# Altium footprint library ROBOCAM_1.PcbLib: 116 footprints (part 4 of 8)
Each footprint in its own frame and in the unit in brackets; x right, y up, seen from the top. Pads: shape width x height; smd on the part's side, far side on the other; paste and mask are expansions set on the pad; w line width, h text height; cw(c..) or ccw(c..) is an arc to the next point about the centre after c.
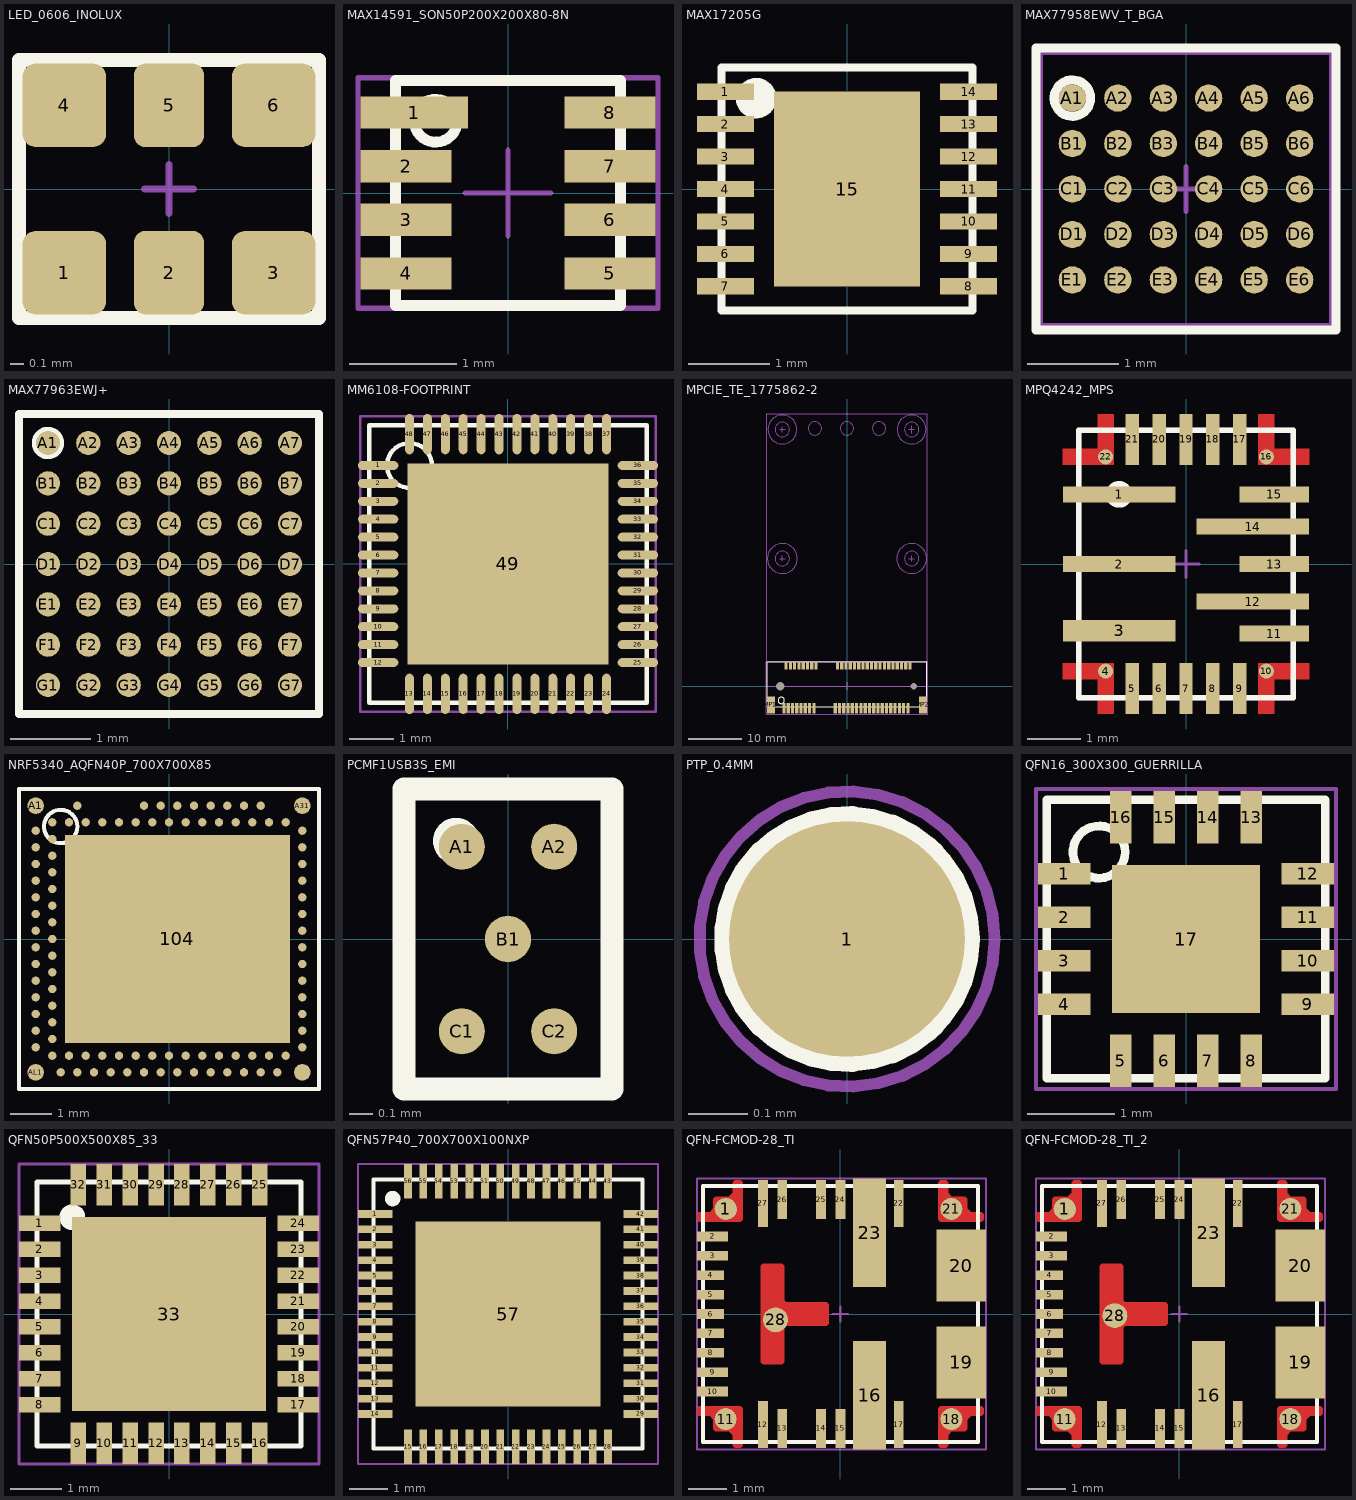
[diagram p3: the footprints below, top view; thin cyan lines are the x and y axes]

## LED_0606_INOLUX [mm] "1.6X1.6mm SMD LED"
height 0.4
pads (6):
  rrect32% 0.6x0.6 smd paste+0 mask+0.05: 1(-0.75,-0.6) 3(0.75,-0.6) 4(-0.75,0.6) 6(0.75,0.6)
  rrect32% 0.5x0.6 smd paste+0 mask+0.05: 2(0,-0.6) 5(0,0.6)
Top Overlay:
  circle w0.2: c-0.75,-0.6 r0.1
  lines w0.1: -1.075,-0.925 1.075,-0.925 1.075,0.925 -1.075,0.925 -1.075,-0.925
Top 3D Body:
  circle w0.2: c0.9,-0.5 r0.1
Top Courtyard:
  lines w0.05: -0.175,0 0.175,0 ; 0,-0.175 0,0.175 ; -1.075,-0.925 1.075,-0.925 1.075,0.925 -1.075,0.925 -1.075,-0.925
Top Designator:
  text ".Designator" at 7.618,0.508 h1.52
3D body "LED_RGB_IN-S66TFT5R5G5B.stp": height 0.4, standoff 0, extent -0.8,-0.8 0.8,0.8
3D body: height 0.41, standoff 0.31, extent -0.546,-0.1 -0.346,0.1
3D body: height 0.41, standoff 0.31, extent 0.346,-0.1 0.546,0.1
3D body: height 0.41, standoff 0.31, extent -0.1,-0.1 0.1,0.1

## MAX14591_SON50P200X200X80-8N [mm] "MAX14591 Logic-level translator, 0.8mm height"
height 0.8
pads (8):
  rect 1x0.3 smd paste+0 mask+0.05: 1(-0.875,0.75)
  rect 0.85x0.3 smd paste+0 mask+0.05: 2(-0.95,0.25) 3(-0.95,-0.25) 4(-0.95,-0.75) 5(0.95,-0.75) 6(0.95,-0.25) 7(0.95,0.25) 8(0.95,0.75)
Top Overlay:
  circle w0.1: c-0.675,0.675 r0.2
  lines w0.1: -1.05,-1.05 -1.05,1.05 1.05,1.05 1.05,-1.05 -1.05,-1.05
Top Courtyard:
  lines w0.05: -0.4,0 0.4,0 ; 0,-0.4 0,0.4 ; -1.4,-1.075 -1.4,1.075 1.4,1.075 1.4,-1.075 -1.4,-1.075
Top Designator:
  text ".Designator" at 7.618,0.508 h1.52
3D body "MAX14591ETA+T.stp": height 0.8, standoff 0, extent -1.05,-1 1.05,1
3D body: height 0.79, standoff 0.69, extent -0.9,0.6 -0.6,0.9

## MAX17205G [mm]
height 0.8
pads (15):
  rect 0.7x0.2 smd paste+0 mask+0.05: 1(-1.5,1.2) 2(-1.5,0.8) 3(-1.5,0.4) 4(-1.5,0) 5(-1.5,-0.4) 6(-1.5,-0.8) 7(-1.5,-1.2) 8(1.5,-1.2) 9(1.5,-0.8) 10(1.5,-0.4) 11(1.5,0) 12(1.5,0.4) 13(1.5,0.8) 14(1.5,1.2)
  rect 1.8x2.4 smd paste+0 mask+0.05: 15(0,0)
Top Overlay:
  circle w0.25: c-1.12,1.12 r0.125
  lines w0.1: -1.55,-1.5 -1.55,1.5 1.55,1.5 1.55,-1.5 -1.55,-1.5
Top Courtyard:
  lines w0.05: -1.55,-1.5 -1.55,1.5 1.55,1.5 1.55,-1.5 -1.55,-1.5
Top Designator:
  text ".Designator" at 7.618,0.508 h1.52
3D body "MAX17205G+.stp": height 0.8, standoff 0, extent -1.55,-1.5 1.55,1.5
3D body: height 0.79, standoff 0.69, extent -1.32,0.92 -0.92,1.32

## MAX77958EWV_T_BGA [mm] "6x5 WLP, 0.5mm pitch, 3.1mm x 2.65mm"
height 0.69
pads (30):
  round 0.3 smd mask+0.05: A1(-1.25,1) A2(-0.75,1) A3(-0.25,1) A4(0.25,1) A5(0.75,1) A6(1.25,1) B1(-1.25,0.5) B2(-0.75,0.5) B3(-0.25,0.5) B4(0.25,0.5) B5(0.75,0.5) B6(1.25,0.5) C1(-1.25,0) C2(-0.75,0) C3(-0.25,0) C4(0.25,0) C5(0.75,0) C6(1.25,0) D1(-1.25,-0.5) D2(-0.75,-0.5) D3(-0.25,-0.5) D4(0.25,-0.5) D5(0.75,-0.5) D6(1.25,-0.5) E1(-1.25,-1) E2(-0.75,-1) E3(-0.25,-1) E4(0.25,-1) E5(0.75,-1) E6(1.25,-1)
Top Overlay:
  circle w0.1: c-1.25,1 r0.2
  lines w0.1: -1.65,-1.55 -1.65,1.55 1.65,1.55 1.65,-1.55 -1.65,-1.55
Top Courtyard:
  lines w0.05: -0.25,0 0.25,0 ; 0,-0.25 0,0.25 ; -1.6,-1.5 -1.6,1.5 1.6,1.5 1.6,-1.5 -1.6,-1.5
Top Designator:
  text ".Designator" at -7.618,-0.508 h1.52
3D body: height 0.65, standoff 0.6, extent -1.5,0.85 -0.9,1.45
3D body "MAX77958CEWV+T.stp": height 0.69, standoff 0, extent -1.603,-1.502 1.603,1.502

## MAX77963EWJ+ [mm] "23VIN, 3.2 2S/3S -cell Li-Ion Battery Charger with PD."
height 0.69
pads (49):
  round 0.3 smd paste+0 mask+0.05: A1(-1.5,1.5) A2(-1,1.5) A3(-0.5,1.5) A4(0,1.5) A5(0.5,1.5) A6(1,1.5) A7(1.5,1.5) B1(-1.5,1) B2(-1,1) B3(-0.5,1) B4(0,1) B5(0.5,1) B6(1,1) B7(1.5,1) C1(-1.5,0.5) C2(-1,0.5) C3(-0.5,0.5) C4(0,0.5) C5(0.5,0.5) C6(1,0.5) C7(1.5,0.5) D1(-1.5,0) D2(-1,0) D3(-0.5,0) D4(0,0) D5(0.5,0) D6(1,0) D7(1.5,0) E1(-1.5,-0.5) E2(-1,-0.5) E3(-0.5,-0.5) E4(0,-0.5) E5(0.5,-0.5) E6(1,-0.5) E7(1.5,-0.5) F1(-1.5,-1) F2(-1,-1) F3(-0.5,-1) F4(0,-1) F5(0.5,-1) F6(1,-1) F7(1.5,-1) G1(-1.5,-1.5) G2(-1,-1.5) G3(-0.5,-1.5) G4(0,-1.5) G5(0.5,-1.5) G6(1,-1.5) G7(1.5,-1.5)
Top Overlay:
  circle w0.2: c-1.5,1.5 r0.1
  lines w0.1: -1.859,-1.859 1.859,-1.859 1.859,1.859 -1.859,1.859 -1.859,-1.859
Top Courtyard:
  lines w0.05: -1.859,-1.859 1.859,-1.859 1.859,1.859 -1.859,1.859 -1.859,-1.859
Top Designator:
  text ".Designator" at 7.618,0.508 h1.52
3D body: height 0.65, standoff 0.5, extent -1.7,1.075 -1.1,1.675
3D body "MAX77963EWJ+.stp": height 0.69, standoff 0, extent -1.859,-1.859 1.859,1.859

## MM6108-FOOTPRINT [mm] "QFN48, 6 x 6, Pitch 0.4 mm"
height 0.9
pads (49):
  oval 0.9x0.2 smd mask+0.05: 1(-2.9,2.2) 2(-2.9,1.8) 3(-2.9,1.4) 4(-2.9,1) 5(-2.9,0.6) 6(-2.9,0.2) 7(-2.9,-0.2) 8(-2.9,-0.6) 9(-2.9,-1) 10(-2.9,-1.4) 11(-2.9,-1.8) 12(-2.9,-2.2) 25(2.9,-2.2) 26(2.9,-1.8) 27(2.9,-1.4) 28(2.9,-1) 29(2.9,-0.6) 30(2.9,-0.2) 31(2.9,0.2) 32(2.9,0.6) 33(2.9,1) 34(2.9,1.4) 35(2.9,1.8) 36(2.9,2.2)
  oval 0.2x0.9 smd mask+0.05: 13(-2.2,-2.9) 14(-1.8,-2.9) 15(-1.4,-2.9) 16(-1,-2.9) 17(-0.6,-2.9) 18(-0.2,-2.9) 19(0.2,-2.9) 20(0.6,-2.9) 21(1,-2.9) 22(1.4,-2.9) 23(1.8,-2.9) 24(2.2,-2.9) 37(2.2,2.9) 38(1.8,2.9) 39(1.4,2.9) 40(1,2.9) 41(0.6,2.9) 42(0.2,2.9) 43(-0.2,2.9) 44(-0.6,2.9) 45(-1,2.9) 46(-1.4,2.9) 47(-1.8,2.9) 48(-2.2,2.9)
  rect 4.5x4.5 smd paste-10 mask+0.05: 49(0,0)
Top Overlay:
  circle w0.1: c-2.2,2.2 r0.5
  lines w0.1: -3.1,-3.1 -3.1,3.1 3.1,3.1 3.1,-3.1 -3.1,-3.1
Top Paste:
  rectangle: 0.25,0.25 2.25,2.25
  region: -0.249,0.25 -0.249,2.25 -2.249,2.25 -2.249,0.25
  region: -0.25,-0.25 -2.25,-0.25 -2.25,-2.25 -0.25,-2.25
  region: 0.251,-0.25 0.251,-2.25 2.251,-2.25 2.251,-0.25
Top Courtyard:
  lines w0.05: -0.5,0 0.5,0 ; 0,-0.5 0,0.5 ; -3.3,-3.3 -3.3,3.3 3.3,3.3 3.3,-3.3 -3.3,-3.3
Top Designator:
  text ".Designator" at -7.618,-0.508 h1.52
3D body "QFN40P600X600X90_HS-49N2.step": height 0.9, standoff 0, extent -3.051,-3.051 3.051,3.051

## MPCIE_TE_1775862-2 [mm] "mPCie 5.2H Type I G/F"
height 5.2
pads (56):
  rect 0.6x2 smd paste+0 mask+0.05: 1(-11.8,-4.1) 3(-11,-4.1) 5(-10.2,-4.1) 7(-9.4,-4.1) 9(-8.6,-4.1) 11(-7.8,-4.1) 13(-7,-4.1) 15(-6.2,-4.1) 17(-2.2,-4.1) 19(-1.4,-4.1) 21(-0.6,-4.1) 23(0.2,-4.1) 25(1,-4.1) 27(1.8,-4.1) 29(2.6,-4.1) 31(3.4,-4.1) 33(4.2,-4.1) 35(5,-4.1) 37(5.8,-4.1) 39(6.6,-4.1) 41(7.4,-4.1) 43(8.2,-4.1) 45(9,-4.1) 47(9.8,-4.1) 49(10.6,-4.1) 51(11.4,-4.1)
  rect 0.6x1.4 smd paste+0 mask+0.05: 2(-11.4,3.8) 4(-10.6,3.8) 6(-9.8,3.8) 8(-9,3.8) 10(-8.2,3.8) 12(-7.4,3.8) 14(-6.6,3.8) 16(-5.8,3.8) 18(-1.8,3.8) 20(-1,3.8) 22(-0.2,3.8) 24(0.6,3.8) 26(1.4,3.8) 28(2.2,3.8) 30(3,3.8) 32(3.8,3.8) 34(4.6,3.8) 36(5.4,3.8) 38(6.2,3.8) 40(7,3.8) 42(7.8,3.8) 44(8.6,3.8) 46(9.4,3.8) 48(10.2,3.8) 50(11,3.8) 52(11.8,3.8)
  round 0 hole 1.65 unplated paste-2539.97 mask+0.1: 55(-12.5,0)
  round 0 hole 1.15 unplated paste-2539.97 mask+0.1: 56(12.5,0)
  rect 1.45x3.2 smd paste+0 mask+0.1: MP1(-14.225,-3.5) MP2(14.225,-3.5)
Top Overlay:
  circle w0.1: c-12.3,-2.65 r0.6
  lines w0.1: -14.95,-1.4 -14.95,4.6 ; -12,4.6 -14.95,4.6 ; 12.4,4.6 14.95,4.6 ; 14.95,-1.4 14.95,4.6 ; -14.95,4.6 -14.95,-3.85 14.95,-3.85 14.95,4.6 ; -14.95,4.6 14.95,4.6
Mechanical 4:
  circle w0.1: c12.1,23.9 r2.8
  circle w0.1: c-12.1,48.05 r2.7
  circle w0.1: c12.1,48.05 r2.7
  circle w0.1: c-12.1,48.05 r1.35
  circle w0.1: c12.1,48.05 r1.35
  circle w0.1: c12.1,23.9 r1.35
  circle w0.1: c-12.1,23.9 r1.35
  circle w0.1: c-12.1,23.9 r2.8
  circle w0.1: c6,48.25 r1.25
  circle w0.1: c0,48.25 r1.25
  circle w0.1: c-6,48.25 r1.25
  lines w0.05: -12.5,48.05 -12.1,48.05 ; -12.1,47.5 -12.1,48.05 ; -12.1,48.55 -12.1,48.05 ; 12.1,47.35 12.1,48.05 ; 12.1,48.75 12.1,48.05 ; 12.5,48.05 12.1,48.05 ; -15,0 -15,50.95 15,50.95 15,0 -15,0
  lines w0.1: -12.6,23.9 -11.6,23.9 ; -12.6,48.05 -11.6,48.05 ; -12.1,23.4 -12.1,24.4 ; -12.1,47.55 -12.1,48.55 ; 11.6,23.9 12.6,23.9 ; 11.6,48.05 12.6,48.05 ; 12.1,23.4 12.1,24.4 ; 12.1,47.55 12.1,48.55
Top Courtyard:
  lines w0.05: -0.7,0 0.7,0 ; 0,-0.7 0,0.7
  lines w0.1: -15.1,-5.2 -15.1,4.7 15.1,4.7 15.1,-5.2 -15.1,-5.2
Top Designator:
  text ".Designator" at 7.618,23.37 h1.52
3D body "c-1775862-2-h-3d.stp": height 5.21, standoff -0.64, extent -14.95,-4.58 14.95,4.5

## MPQ4242_MPS [mm] "4.0 x 5.0 x 1.0mm QFN-22"
height 1
pads (22):
  rect 2.1x0.3 smd paste+0 mask+0.05: 1(-1.25,1.3) 2(-1.25,0) 12(1.25,-0.7) 14(1.25,0.7)
  rect 2.1x0.4 smd paste+0 mask+0.05: 3(-1.25,-1.25)
  round 0.278 smd paste+0 mask+0: 4(-1.5,-2) 10(1.5,-2) 16(1.5,2) 22(-1.5,2)
  rect 0.25x0.95 smd paste+0 mask+0.05: 5(-1,-2.325) 6(-0.5,-2.325) 7(0,-2.325) 8(0.5,-2.325) 9(1,-2.325) 17(1,2.325) 18(0.5,2.325) 19(0,2.325) 20(-0.5,2.325) 21(-1,2.325)
  rect 1.3x0.3 smd paste+0 mask+0.05: 11(1.65,-1.3) 13(1.65,0) 15(1.65,1.3)
Top Layer:
  region: 1.35,2.8 1.65,2.8 1.65,2.15 2.3,2.15 2.3,1.85 1.35,1.85
  region: 2.3,-1.85 2.3,-2.15 1.65,-2.15 1.65,-2.8 1.35,-2.8 1.35,-1.85
  region: -1.35,-2.8 -1.65,-2.8 -1.65,-2.15 -2.3,-2.15 -2.3,-1.85 -1.35,-1.85
  region: -2.3,1.85 -2.3,2.15 -1.65,2.15 -1.65,2.8 -1.35,2.8 -1.35,1.85
Top Overlay:
  circle w0.25: c-1.25,1.3 r0.125
  lines w0.1: -2,-2.5 2,-2.5 2,2.5 -2,2.5 -2,-2.5
Top Paste:
  region: -2.3,1.85 -2.3,2.15 -1.65,2.15 -1.65,2.8 -1.35,2.8 -1.35,1.85
  region: -1.35,-2.8 -1.65,-2.8 -1.65,-2.15 -2.3,-2.15 -2.3,-1.85 -1.35,-1.85
  region: 2.3,-1.85 2.3,-2.15 1.65,-2.15 1.65,-2.8 1.35,-2.8 1.35,-1.85
  region: 1.35,2.8 1.65,2.8 1.65,2.15 2.3,2.15 2.3,1.85 1.35,1.85
Top Courtyard:
  lines w0.05: -0.25,0 0.25,0 ; 0,-0.25 0,0.25
  lines w0.1: -2,-2.5 -2,2.5 2,2.5 2,-2.5 -2,-2.5
Top Designator:
  text ".Designator" at -7.618,-0.508 h1.52
3D body "MPQ4242GVE-0000-AEC1-P.stp": height 1.1, standoff 0, extent -2,-2.5 2,2.5
3D body: height 1.11, standoff 1.06, extent -1.55,1 -0.95,1.6

## NRF5340_AQFN40P_700X700X85 [mm] "AQFN40P"
height 0.85
pads (99):
  rect 5.4x5 smd paste-5 mask+0.05: 104(0.2,0)
  round 0.4 smd paste+0.012 mask+0.05: A1(-3.2,3.2) A31(3.2,3.2) AL1(-3.2,-3.2) AL31(3.2,-3.2)
  round 0.2 smd paste+0.015 mask+0.05: A5(-2.2,3.2) A13(-0.6,3.2) A15(-0.2,3.2) A17(0.2,3.2) A19(0.6,3.2) A21(1,3.2) A23(1.4,3.2) A25(1.8,3.2) A27(2.2,3.2) AA1(-3.2,-1) AA31(3.2,-1) AB2(-2.8,-1.2) AC1(-3.2,-1.4) AC31(3.2,-1.4) AD2(-2.8,-1.6) AE1(-3.2,-1.8) AE31(3.2,-1.8) AF2(-2.8,-2) AG1(-3.2,-2.2) AG31(3.2,-2.2) AH2(-2.8,-2.4) AJ1(-3.2,-2.6) AJ31(3.2,-2.6) AK2(-2.8,-2.8) AK4(-2.4,-2.8) AK6(-2,-2.8) AK8(-1.6,-2.8) AK10(-1.2,-2.8) AK12(-0.8,-2.8) AK14(-0.4,-2.8) AK16(0,-2.8) AK18(0.4,-2.8) AK20(0.8,-2.8) AK22(1.2,-2.8) AK24(1.6,-2.8) AK26(2,-2.8) AK28(2.4,-2.8) AK30(2.8,-2.8) AL3(-2.6,-3.2) AL5(-2.2,-3.2) AL7(-1.8,-3.2) AL9(-1.4,-3.2) AL11(-1,-3.2) AL13(-0.6,-3.2) AL15(-0.2,-3.2) AL17(0.2,-3.2) AL19(0.6,-3.2) AL21(1,-3.2) AL23(1.4,-3.2) AL25(1.8,-3.2) AL27(2.2,-3.2) AL29(2.6,-3.2) B2(-2.8,2.8) B4(-2.4,2.8) B6(-2,2.8) B8(-1.6,2.8) B10(-1.2,2.8) B12(-0.8,2.8) B14(-0.4,2.8) B16(0,2.8) B18(0.4,2.8) B20(0.8,2.8) B22(1.2,2.8) B24(1.6,2.8) B26(2,2.8) B28(2.4,2.8) B30(2.8,2.8) C1(-3.2,2.6) C31(3.2,2.6) D2(-2.8,2.4) E1(-3.2,2.2) E31(3.2,2.2) F2(-2.8,2) G1(-3.2,1.8) G31(3.2,1.8) H2(-2.8,1.6) J1(-3.2,1.4) J31(3.2,1.4) K2(-2.8,1.2) L1(-3.2,1) L31(3.2,1) M2(-2.8,0.8) N1(-3.2,0.6) N31(3.2,0.6) P2(-2.8,0.4) R1(-3.2,0.2) R31(3.2,0.2) T2(-2.8,0) U1(-3.2,-0.2) U31(3.2,-0.2) V2(-2.8,-0.4) W1(-3.2,-0.6) W31(3.2,-0.6) Y2(-2.8,-0.8)
Top Overlay:
  circle w0.1: c-2.6,2.7 r0.4
  lines w0.1: -3.6,-3.6 -3.6,3.6 3.6,3.6 3.6,-3.6 -3.6,-3.6
Top Paste:
  rectangle: 1.6,1.297 2.7,2.302
  rectangle: 1.6,0.098 2.7,1.103
  rectangle: 1.6,-1.102 2.7,-0.097
  rectangle: 1.6,-2.302 2.7,-1.297
  rectangle: 0.3,1.297 1.4,2.302
  rectangle: 0.3,0.098 1.4,1.103
  rectangle: 0.3,-1.102 1.4,-0.097
  rectangle: 0.3,-2.302 1.4,-1.297
  rectangle: -1,1.297 0.1,2.302
  rectangle: -1,0.098 0.1,1.103
  rectangle: -1,-1.102 0.1,-0.097
  rectangle: -1,-2.302 0.1,-1.297
  rectangle: -2.3,1.297 -1.2,2.302
  rectangle: -2.3,0.098 -1.2,1.103
  rectangle: -2.3,-1.102 -1.2,-0.097
  rectangle: -2.3,-2.302 -1.2,-1.297
Top Courtyard:
  lines w0.05: -0.3,0 0.7,0 ; 0.2,-0.5 0.2,0.5 ; -3.6,-3.6 3.6,-3.6 3.6,3.6 -3.6,3.6 -3.6,-3.6
Top Designator:
  text ".Designator" at 7.618,0.508 h1.52
3D body "aQFN-94 (7x7).sldprt": height 0.85, standoff 0, extent -3.5,-3.5 3.5,3.5

## PCMF1USB3S_EMI [mm]
height 0.6
pads (5):
  round 0.2 smd paste+0 mask+0.05: A1(-0.2,0.4) A2(0.2,0.4) B1(0,0) C1(-0.2,-0.4) C2(0.2,-0.4)
Top Overlay:
  lines w0.1: -0.45,-0.65 -0.45,0.65 0.45,0.65 0.45,-0.65 -0.45,-0.65 ; -0.225,0.375 cw(c-0.225,0.425) -0.225,0.475 cw(c-0.225,0.425) -0.225,0.375
Top Courtyard:
  lines w0.05: -0.45,-0.65 0.45,-0.65 0.45,0.65 -0.45,0.65 -0.45,-0.65
Top Designator:
  text ".Designator" at 7.618,0.508 h1.52
3D body: height 0.58, standoff 0.55, extent -0.27,0.33 -0.13,0.47
3D body "PCMF1USB3SZ.stp": height 0.57, standoff 0, extent -0.385,-0.585 0.385,0.585

## PTP_0.4MM [mm] "ProductionTest Point, Circular, 0.4mm. Flying probe. Use 1mm pitch."
height 0.03
pads (1):
  round 0.4 smd paste-0.5 mask+0.05: 1(0,0)
Top Overlay:
  circle w0.05: c0,0 r0.2
  lines w0.05: -0.141,-0.141 0.141,0.141 ; -0.141,0.141 0.141,-0.141
Top Courtyard:
  circle w0.02: c0,0 r0.25
Top Designator:
  text ".Designator" at -7.618,-0.508 h1.52
3D body: height 0.01, standoff 0, extent -0.204,-0.187 0.196,0.213

## QFN16_300X300_GUERRILLA [mm] "QFN16 Guerrilla RF"
height 0.9
pads (17):
  rect 0.6x0.25 smd mask+0.05: 1(-1.4,0.75) 2(-1.4,0.25) 3(-1.4,-0.25) 4(-1.4,-0.75) 9(1.4,-0.75) 10(1.4,-0.25) 11(1.4,0.25) 12(1.4,0.75)
  rect 0.25x0.6 smd mask+0.05: 5(-0.75,-1.4) 6(-0.25,-1.4) 7(0.25,-1.4) 8(0.75,-1.4) 13(0.75,1.4) 14(0.25,1.4) 15(-0.25,1.4) 16(-0.75,1.4)
  rect 1.7x1.7 smd paste-0.2 mask+0.05: 17(0,0)
Top Overlay:
  circle w0.1: c-1,1 r0.3
  lines w0.1: -1.6,-1.6 -1.6,1.6 1.6,1.6 1.6,-1.6 -1.6,-1.6
Top Courtyard:
  lines w0.05: -0.3,0 0.3,0 ; 0,-0.3 0,0.3 ; -1.725,-1.725 -1.725,1.725 1.725,1.725 1.725,-1.725 -1.725,-1.725
Top Designator:
  text ".Designator" at 7.618,0.508 h1.52
3D body: height 0.9, standoff 0, extent -1.55,-1.55 1.55,1.55
3D body: height 0.92, standoff 0.7, extent -1.2,0.8 -0.8,1.2

## QFN50P500X500X85_33 [mm]
height 1.42
pads (33):
  rect 0.8x0.3 smd paste+0 mask+0.05: 1(-2.5,1.75) 2(-2.5,1.25) 3(-2.5,0.75) 4(-2.5,0.25) 5(-2.5,-0.25) 6(-2.5,-0.75) 7(-2.5,-1.25) 8(-2.5,-1.75) 17(2.5,-1.75) 18(2.5,-1.25) 19(2.5,-0.75) 20(2.5,-0.25) 21(2.5,0.25) 22(2.5,0.75) 23(2.5,1.25) 24(2.5,1.75)
  rect 0.3x0.8 smd paste+0 mask+0.05: 9(-1.75,-2.5) 10(-1.25,-2.5) 11(-0.75,-2.5) 12(-0.25,-2.5) 13(0.25,-2.5) 14(0.75,-2.5) 15(1.25,-2.5) 16(1.75,-2.5) 25(1.75,2.5) 26(1.25,2.5) 27(0.75,2.5) 28(0.25,2.5) 29(-0.25,2.5) 30(-0.75,2.5) 31(-1.25,2.5) 32(-1.75,2.5)
  rect 3.75x3.75 smd paste-2 mask+0.05: 33(0,0)
Top Overlay:
  circle w0.25: c-1.87,1.87 r0.125
  lines w0.1: -2.55,-2.55 -2.55,2.55 2.55,2.55 2.55,-2.55 -2.55,-2.55
Top Paste:
  region: 0.1,-1.6 0.1,-0.1 1.6,-0.1 1.6,-1.6
  region: -1.6,-0.1 -0.1,-0.1 -0.1,-1.6 -1.6,-1.6
  region: -0.1,1.6 -0.1,0.1 -1.6,0.1 -1.6,1.6
  region: 1.6,0.1 0.1,0.1 0.1,1.6 1.6,1.6
Top Courtyard:
  lines w0.05: -2.9,-2.9 -2.9,2.9 2.9,2.9 2.9,-2.9 -2.9,-2.9
Top Designator:
  text ".Designator" at -7.618,-0.508 h1.52
3D body: height 0.84, standoff 0.74, extent -2.27,1.47 -1.47,2.27
3D body "LPC804M101JHI33E.stp": height 0.85, standoff 0, extent -2.55,-2.55 2.55,2.55

## QFN57P40_700X700X100NXP [mm] "QFN56 + pad NXP"
height 1
pads (57):
  rect 0.9x0.2 smd paste+0 mask+0.05: 1(-3.45,2.6) 2(-3.45,2.2) 3(-3.45,1.8) 4(-3.45,1.4) 5(-3.45,1) 6(-3.45,0.6) 7(-3.45,0.2) 8(-3.45,-0.2) 9(-3.45,-0.6) 10(-3.45,-1) 11(-3.45,-1.4) 12(-3.45,-1.8) 13(-3.45,-2.2) 14(-3.45,-2.6) 29(3.45,-2.6) 30(3.45,-2.2) 31(3.45,-1.8) 32(3.45,-1.4) 33(3.45,-1) 34(3.45,-0.6) 35(3.45,-0.2) 36(3.45,0.2) 37(3.45,0.6) 38(3.45,1) 39(3.45,1.4) 40(3.45,1.8) 41(3.45,2.2) 42(3.45,2.6)
  rect 0.2x0.9 smd paste+0 mask+0.05: 15(-2.6,-3.45) 16(-2.2,-3.45) 17(-1.8,-3.45) 18(-1.4,-3.45) 19(-1,-3.45) 20(-0.6,-3.45) 21(-0.2,-3.45) 22(0.2,-3.45) 23(0.6,-3.45) 24(1,-3.45) 25(1.4,-3.45) 26(1.8,-3.45) 27(2.2,-3.45) 28(2.6,-3.45) 43(2.6,3.45) 44(2.2,3.45) 45(1.8,3.45) 46(1.4,3.45) 47(1,3.45) 48(0.6,3.45) 49(0.2,3.45) 50(-0.2,3.45) 51(-0.6,3.45) 52(-1,3.45) 53(-1.4,3.45) 54(-1.8,3.45) 55(-2.2,3.45) 56(-2.6,3.45)
  rect 4.8x4.8 smd paste-3 mask+0.05: 57(0,0)
Top Overlay:
  circle w0.2: c-3,3 r0.1
  lines w0.1: -3.5,-3.5 3.5,-3.5 3.5,3.5 -3.5,3.5 -3.5,-3.5
Top Paste:
  region: 2.1,-2.1 0.9,-2.1 0.9,-0.9 2.1,-0.9
  region: -0.9,-2.1 -2.1,-2.1 -2.1,-0.9 -0.9,-0.9
  region: 0.6,-2.1 -0.6,-2.1 -0.6,-0.9 0.6,-0.9
  region: 2.1,0.9 0.9,0.9 0.9,2.1 2.1,2.1
  region: -0.9,0.9 -2.1,0.9 -2.1,2.1 -0.9,2.1
  region: 0.6,0.9 -0.6,0.9 -0.6,2.1 0.6,2.1
  region: 2.1,-0.6 0.9,-0.6 0.9,0.6 2.1,0.6
  region: -0.9,-0.6 -2.1,-0.6 -2.1,0.6 -0.9,0.6
  region: 0.6,-0.6 -0.6,-0.6 -0.6,0.6 0.6,0.6
Top Courtyard:
  lines w0.05: -3.9,-3.9 3.9,-3.9 3.9,3.9 -3.9,3.9 -3.9,-3.9
Top Designator:
  text ".Designator" at 7.618,0.508 h1.52
3D body "PCA9450CHNY.STEP": height 1, standoff 0, extent -3.5,-3.5 3.5,3.5

## QFN-FCMOD-28_TI [mm] "QFN-FCMOD-28 package from Texas Instruments"
height 2.1
pads (28):
  round 0.565 smd paste-0.27 mask+0: 1(-2.961,2.711) 11(-2.961,-2.711) 18(2.861,-2.711) 21(2.861,2.711)
  rect 0.8x0.25 smd paste+0 mask+0: 2(-3.3,2) 3(-3.3,1.5) 9(-3.3,-1.5) 10(-3.3,-2)
  rect 0.7x0.25 smd paste+0 mask+0: 4(-3.35,1) 5(-3.35,0.5) 6(-3.35,0) 7(-3.35,-0.5) 8(-3.35,-1)
  rect 0.25x1.2 smd paste+0 mask+0: 12(-2,-2.85) 17(1.5,-2.85) 22(1.5,2.85) 27(-2,2.85)
  rect 0.25x1 smd paste+0 mask+0: 13(-1.5,-2.95) 14(-0.5,-2.95) 15(0,-2.95) 24(0,2.95) 25(-0.5,2.95) 26(-1.5,2.95)
  rect 0.85x2.8 smd paste-1.387 mask-1.384: 16(0.75,-2.1) 23(0.75,2.1)
  rect 1.275x1.85 smd paste-0.912 mask-0.914: 19(3.113,-1.25) 20(3.113,1.25)
  round 0.644 smd paste-0.309 mask+0: 28(-1.675,-0.15)
Top Layer:
  region: -2.05,-1.25 -2.05,1.25 -2,1.3 -1.5,1.3 -1.45,1.25 -1.45,0.35 -1.4,0.3 -0.35,0.3 -0.3,0.25 -0.3,-0.25 -0.35,-0.3 -1.4,-0.3 -1.45,-0.35 -1.45,-1.25 -1.5,-1.3 -2,-1.3
  region: 2.575,2.375 3.65,2.375 3.7,2.425 3.7,2.575 3.65,2.625 3.375,2.625 3.275,2.725 3.275,2.975 3.225,3.025 2.875,3.025 2.775,3.125 2.775,3.4 2.725,3.45 2.575,3.45 2.525,3.4 2.525,2.425
  region: 2.575,-2.375 3.65,-2.375 3.7,-2.425 3.7,-2.575 3.65,-2.625 3.375,-2.625 3.275,-2.725 3.275,-2.975 3.225,-3.025 2.875,-3.025 2.775,-3.125 2.775,-3.4 2.725,-3.45 2.575,-3.45 2.525,-3.4 2.525,-2.425
  region: -2.575,-2.375 -3.65,-2.375 -3.7,-2.425 -3.7,-2.575 -3.65,-2.625 -3.375,-2.625 -3.275,-2.725 -3.275,-2.975 -3.225,-3.025 -2.875,-3.025 -2.775,-3.125 -2.775,-3.4 -2.725,-3.45 -2.575,-3.45 -2.525,-3.4 -2.525,-2.425
  region: -2.575,2.375 -3.65,2.375 -3.7,2.425 -3.7,2.575 -3.65,2.625 -3.375,2.625 -3.275,2.725 -3.275,2.975 -3.225,3.025 -2.875,3.025 -2.775,3.125 -2.775,3.4 -2.725,3.45 -2.575,3.45 -2.525,3.4 -2.525,2.425
Top Overlay:
  circle w0.25: c-2.925,2.7 r0.125
  lines w0.1: -3.55,-3.3 3.55,-3.3 3.55,3.3 -3.55,3.3 -3.55,-3.3
Top Paste:
  drawing of 21 lines, arcs and shapes, not listed
Top Solder:
  drawing of 8 lines, arcs and shapes, not listed
Top Courtyard:
  lines w0.05: -0.2,0 0.2,0 ; 0,-0.2 0,0.2 ; -3.7,-3.5 -3.7,3.5 3.75,3.5 3.75,-3.5 -3.7,-3.5
Top Designator:
  text ".Designator" at -7.593,-0.508 h1.52
3D body "TPSM64406RCHR.stp": height 1.95, standoff -0.05, extent -3.55,-3.3 3.55,3.296
3D body: height 1.94, standoff 1.84, extent -3.205,2.42 -2.645,2.98

## QFN-FCMOD-28_TI_2 [mm]
pads (28):
  round 0.565 smd paste-0.27 mask+0: 1(-2.961,2.711) 11(-2.961,-2.711) 18(2.861,-2.711) 21(2.861,2.711)
  rect 0.8x0.25 smd paste+0 mask+0: 2(-3.3,2) 3(-3.3,1.5) 9(-3.3,-1.5) 10(-3.3,-2)
  rect 0.7x0.25 smd paste+0 mask+0: 4(-3.35,1) 5(-3.35,0.5) 6(-3.35,0) 7(-3.35,-0.5) 8(-3.35,-1)
  rect 0.25x1.2 smd paste+0 mask+0: 12(-2,-2.85) 17(1.5,-2.85) 22(1.5,2.85) 27(-2,2.85)
  rect 0.25x1 smd paste+0 mask+0: 13(-1.5,-2.95) 14(-0.5,-2.95) 15(0,-2.95) 24(0,2.95) 25(-0.5,2.95) 26(-1.5,2.95)
  rect 0.85x2.8 smd paste-1.387 mask-1.384: 16(0.75,-2.1) 23(0.75,2.1)
  rect 1.275x1.85 smd paste-0.912 mask-0.914: 19(3.113,-1.25) 20(3.113,1.25)
  round 0.644 smd paste-0.309 mask+0: 28(-1.667,-0.042)
Top Layer:
  region: 2.575,2.375 3.65,2.375 3.7,2.425 3.7,2.575 3.65,2.625 3.375,2.625 3.275,2.725 3.275,2.975 3.225,3.025 2.875,3.025 2.775,3.125 2.775,3.4 2.725,3.45 2.575,3.45 2.525,3.4 2.525,2.425
  region: -2.575,2.375 -3.65,2.375 -3.7,2.425 -3.7,2.575 -3.65,2.625 -3.375,2.625 -3.275,2.725 -3.275,2.975 -3.225,3.025 -2.875,3.025 -2.775,3.125 -2.775,3.4 -2.725,3.45 -2.575,3.45 -2.525,3.4 -2.525,2.425
  region: -2.575,-2.375 -3.65,-2.375 -3.7,-2.425 -3.7,-2.575 -3.65,-2.625 -3.375,-2.625 -3.275,-2.725 -3.275,-2.975 -3.225,-3.025 -2.875,-3.025 -2.775,-3.125 -2.775,-3.4 -2.725,-3.45 -2.575,-3.45 -2.525,-3.4 -2.525,-2.425
  region: 2.575,-2.375 3.65,-2.375 3.7,-2.425 3.7,-2.575 3.65,-2.625 3.375,-2.625 3.275,-2.725 3.275,-2.975 3.225,-3.025 2.875,-3.025 2.775,-3.125 2.775,-3.4 2.725,-3.45 2.575,-3.45 2.525,-3.4 2.525,-2.425
  region: -2.05,-1.25 -2.05,1.25 -2,1.3 -1.5,1.3 -1.45,1.25 -1.45,0.35 -1.4,0.3 -0.35,0.3 -0.3,0.25 -0.3,-0.25 -0.35,-0.3 -1.4,-0.3 -1.45,-0.35 -1.45,-1.25 -1.5,-1.3 -2,-1.3
Top Overlay:
  circle w0.25: c-2.925,2.7 r0.125
  lines w0.1: -3.55,-3.3 3.55,-3.3 3.55,3.3 -3.55,3.3 -3.55,-3.3
Top Paste:
  drawing of 21 lines, arcs and shapes, not listed
Top Solder:
  drawing of 9 lines, arcs and shapes, not listed
Top Courtyard:
  lines w0.05: -0.2,0 0.2,0 ; 0,-0.2 0,0.2 ; -3.7,-3.5 -3.7,3.5 3.75,3.5 3.75,-3.5 -3.7,-3.5
Top Designator:
  text ".Designator" at -7.593,-0.508 h1.52
3D body "TPSM64406RCHR.stp": height 1.95, standoff -0.05, extent -3.55,-3.3 3.55,3.296
3D body: height 1.94, standoff 1.84, extent -3.205,2.42 -2.645,2.98